# Altium schematic symbol library RD044-NETLIST2-CR5-01_Library.SchLib: 29 symbols
Pins are listed as number, name and electrical type; pins without a type are passive.

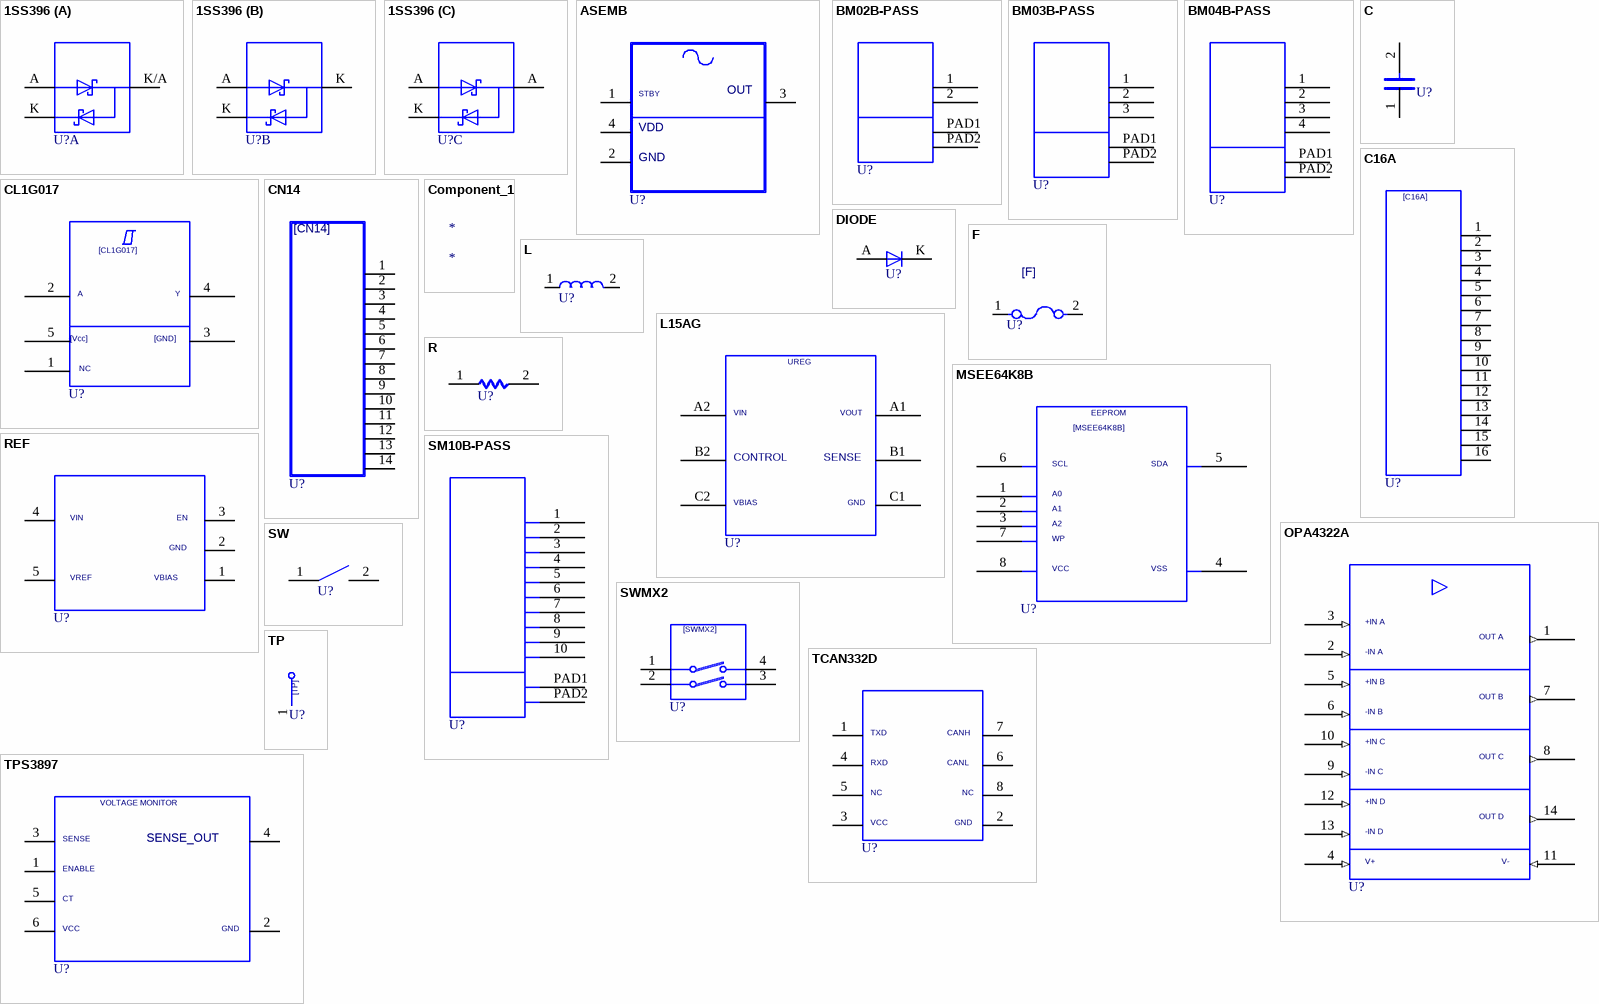
[diagram p0: symbols 1SS396 to TPS3897]

## 1SS396
designator U?  (value not drawn)
SAVECOUNT: 7; SAVEAREA0: -5465,-437,27678,21425; TIME: 18:51:12; UPDATEUSER: cae; UPDATETIME: 10:39:29; OriginalSymbolOrigin: (5080,17780); COMPONENTTYPE: parts; COMPONENTKIND: 103; AUTHOR: sato-yr; DATE: 2002/11/26; UPDATEDATE: 2019/08/02
part A pins: A, K, K/A
part B pins: A, K, K K/A
part C pins: A, A K/A, K

## ASEMB
designator U?  (value not drawn)
SAVEAREA0: -13388,-318,46493,30783; TIME: 14:56:21; UPDATEUSER: cae; UPDATETIME: 14:57:23; SAVECOUNT: 2; OriginalSymbolOrigin: (5080,27940); COMPONENTTYPE: parts; COMPONENTKIND: 118; AUTHOR: cae; DATE: 2019/07/10; UPDATEDATE: 2019/07/10
pins: 1, 2, 3, 4
text: OUT; STBY; VDD; GND

## BM02B-PASS
designator U?  (value not drawn)
SAVEAREA0: -14137,-269,36664,26115; SAVECOUNT: 27; TIME: 13:28:28; UPDATEUSER: cae; UPDATETIME: 09:55:50; OriginalSymbolOrigin: (2540,22860); COMPONENTTYPE: parts; COMPONENTKIND: 135; AUTHOR: user1; DATE: 2004/01/19; UPDATEDATE: 2019/08/02
pins: 1, 2, PAD1, PAD2

## BM03B-PASS
designator U?  (value not drawn)
SAVEAREA0: -16734,-4275,39145,32584; SAVECOUNT: 25; TIME: 13:28:28; UPDATEUSER: cae; UPDATETIME: 09:56:18; OriginalSymbolOrigin: (2540,25400); COMPONENTTYPE: parts; COMPONENTKIND: 135; AUTHOR: user1; DATE: 2004/01/19; UPDATEDATE: 2019/08/02
pins: 1, 2, 3, PAD1, PAD2

## BM04B-PASS
designator U?  (value not drawn)
SAVEAREA0: -19221,-4664,41739,35547; SAVECOUNT: 23; TIME: 13:28:28; UPDATEUSER: cae; UPDATETIME: 09:56:44; OriginalSymbolOrigin: (2540,27940); COMPONENTTYPE: parts; COMPONENTKIND: 135; AUTHOR: user1; DATE: 2004/01/19; UPDATEDATE: 2019/08/02
pins: 1, 2, 3, 4, PAD1, PAD2

## C
designator U?  (value not drawn)
OriginalSymbolOrigin: (2540,7620); COMPONENTTYPE: parts; COMPONENTKIND: 108
pins: 1, 2

## C16A
designator U?  (value not drawn)
SAVEAREA0: -32851,-599,52300,52191; TIME: 12:01:18; UPDATEUSER: fukuda-y; UPDATETIME: 13:44:49; SAVECOUNT: 2; OriginalSymbolOrigin: (2540,48260); COMPONENTTYPE: parts; COMPONENTKIND: 135; AUTHOR: fukuda-y; DATE: 2005/02/01; UPDATEDATE: 2005/02/01
pins: 1, 2, 3, 4, 5, 6, 7, 8, 9, 10, 11, 12, 13, 14, 15, 16
text: [C16A]

## CL1G017
designator U?  (value not drawn)
TIME: 16:09:43; UPDATEUSER: tomizawa-y; UPDATETIME: 12:13:51; SAVECOUNT: 12; SAVEAREA0: -8892,-376,44463,33313; OriginalSymbolOrigin: (7620,30480); COMPONENTTYPE: parts; COMPONENTKIND: 101; AUTHOR: e2117910; DATE: 2003/02/06; UPDATEDATE: 2004/03/26
pins: 1, 2, 3, 4, 5
text: [CL1G017]; A; Y; [Vcc]; [GND]; NC

## CN14
designator U?  (value not drawn)
OriginalSymbolOrigin: (2540,45720); COMPONENTTYPE: parts; COMPONENTKIND: 111
pins: 1, 2, 3, 4, 5, 6, 7, 8, 9, 10, 11, 12, 13, 14
text: [CN14]

## Component_1
designator *

## DIODE
designator U?  (value not drawn)
SAVEAREA0: -1337,-97,13924,7829; SAVECOUNT: 4; TIME: 14:49:55; UPDATEUSER: cae; UPDATETIME: 13:41:08; OriginalSymbolOrigin: (5080,5080); COMPONENTTYPE: parts; COMPONENTKIND: 103; AUTHOR: ikeda-k; DATE: 2003/02/07; UPDATEDATE: 2019/07/08
pins: A, K

## F
designator U?  (value not drawn)
OriginalSymbolOrigin: (2540,5080); COMPONENTTYPE: parts; COMPONENTKIND: 119
pins: 1, 2
text: [F]

## L
designator U?  (value not drawn)
OriginalSymbolOrigin: (2540,5080); COMPONENTTYPE: parts; COMPONENTKIND: 117
pins: 1, 2

## L15AG
designator U?  (value not drawn)
TIME: 08:44:39; UPDATEUSER: cae; UPDATETIME: 13:17:54; SAVECOUNT: 102; SAVEAREA0: -14581,-371,55282,35914; OriginalSymbolOrigin: (7620,33020); COMPONENTTYPE: parts; COMPONENTKIND: 101; AUTHOR: utauser; DATE: 2002/12/27; UPDATEDATE: 2019/07/22
pins: A1, A2, B1, B2, C1, C2
text: UREG; VIN; VOUT; CONTROL; SENSE; VBIAS; GND

## MSEE64K8B
designator U?  (value not drawn)
SAVECOUNT: 8; SAVEAREA0: -9998,-458,55119,39162; TIME: 10:18:07; UPDATEUSER: 19990028; UPDATETIME: 09:15:23; OriginalSymbolOrigin: (7620,35560); COMPONENTTYPE: parts; COMPONENTKIND: 101; AUTHOR: 19910145; DATE: 2008/10/07; UPDATEDATE: 2011/01/31
pins: 1, 2, 3, 4, 5, 6, 7, 8
text: EEPROM; [MSEE64K8B]; SCL; SDA; A0; A1; A2; WP; VCC; VSS

## OPA4322A
designator U?  (value not drawn)
SAVECOUNT: 28; SAVEAREA0: -34439,-609,80338,59004; TIME: 15:40:02; UPDATEUSER: cae; UPDATETIME: 16:49:13; OriginalSymbolOrigin: (7620,55880); COMPONENTTYPE: parts; COMPONENTKIND: 101; AUTHOR: Administrator; DATE: 2002/05/27; UPDATEDATE: 2019/06/25
pins: 1 (out), 2 (in), 3 (in), 4 (in), 5 (in), 6 (in), 7 (out), 8 (out), 9 (in), 10 (in), 11 (in), 12 (in), 13 (in), 14 (out)
text: +IN A; OUT A; -IN A; +IN B; OUT B; -IN B; +IN C; OUT C; -IN C; +IN D; OUT D; -IN D; V+; V-

## R
designator U?  (value not drawn)
OriginalSymbolOrigin: (5080,5080); COMPONENTTYPE: parts; COMPONENTKIND: 105
pins: 1, 2

## REF
designator U?  (value not drawn)
SAVECOUNT: 25; SAVEAREA0: -10386,-296,45494,28727; TIME: 17:47:02; UPDATEUSER: cae; UPDATETIME: 11:05:59; OriginalSymbolOrigin: (5080,25400); COMPONENTTYPE: parts; COMPONENTKIND: 101; AUTHOR: omeh0432; DATE: 2003/04/15; UPDATEDATE: 2019/06/25
pins: 1, 2, 3, 4, 5
text: VIN; EN; GND; VREF; VBIAS

## SM10B-PASS
designator U?  (value not drawn)
SAVEAREA0: -33411,-485,58033,47009; SAVECOUNT: 23; TIME: 13:28:28; UPDATEUSER: cae; UPDATETIME: 14:27:01; OriginalSymbolOrigin: (2540,43180); COMPONENTTYPE: parts; COMPONENTKIND: 135; AUTHOR: user1; DATE: 2004/01/19; UPDATEDATE: 2019/07/22
pins: 1, 2, 3, 4, 5, 6, 7, 8, 9, 10, PAD1, PAD2

## SW
designator U?  (value not drawn)
SAVEAREA0: -3361,-153,18383,13055; SAVECOUNT: 49; TIME: 15:02:55; UPDATEUSER: fukuda-y; UPDATETIME: 10:01:15; OriginalSymbolOrigin: (5080,5080); COMPONENTTYPE: parts; COMPONENTKIND: 115; AUTHOR: fukuda-y; DATE: 2001/10/19; UPDATEDATE: 2006/10/04
pins: 1, 2

## SWMX2
designator U?  (value not drawn)
OriginalSymbolOrigin: (5080,15240); COMPONENTTYPE: parts; COMPONENTKIND: 115
pins: 1, 2, 3, 4
text: [SWMX2]

## TCAN332D
designator U?  (value not drawn)
SAVECOUNT: 26; SAVEAREA0: -15475,-323,45487,31339; TIME: 17:47:02; UPDATEUSER: cae; UPDATETIME: 14:38:54; OriginalSymbolOrigin: (5080,27940); COMPONENTTYPE: parts; COMPONENTKIND: 101; AUTHOR: omeh0432; DATE: 2003/04/15; UPDATEDATE: 2019/07/22
pins: 1, 2, 3, 4, 5, 6, 7, 8
text: TXD; CANH; RXD; CANL; NC; VCC; GND

## TP
designator U?  (value not drawn)
TIME: 16:12:21; UPDATEUSER: fukuda-y; UPDATETIME: 16:18:11; SAVECOUNT: 2; SAVEAREA0: -242,-92,12810,7836; OriginalSymbolOrigin: (0,7620); COMPONENTTYPE: parts; COMPONENTKIND: 128; AUTHOR: fukuda-y; DATE: 2006/10/04; UPDATEDATE: 2006/10/04
pins: 1
text: [TP]

## TPS3897
designator U?  (value not drawn)
SAVEAREA0: -10817,-344,54055,33349; TIME: 16:54:57; UPDATEUSER: cae; UPDATETIME: 13:48:08; SAVECOUNT: 66; OriginalSymbolOrigin: (5080,30480); COMPONENTTYPE: parts; COMPONENTKIND: 101; AUTHOR: iketani; DATE: 2006/02/27; UPDATEDATE: 2019/07/10
pins: 1, 2, 3, 4, 5, 6
text: VOLTAGE MONITOR; SENSE; SENSE_OUT; ENABLE; CT; VCC; GND

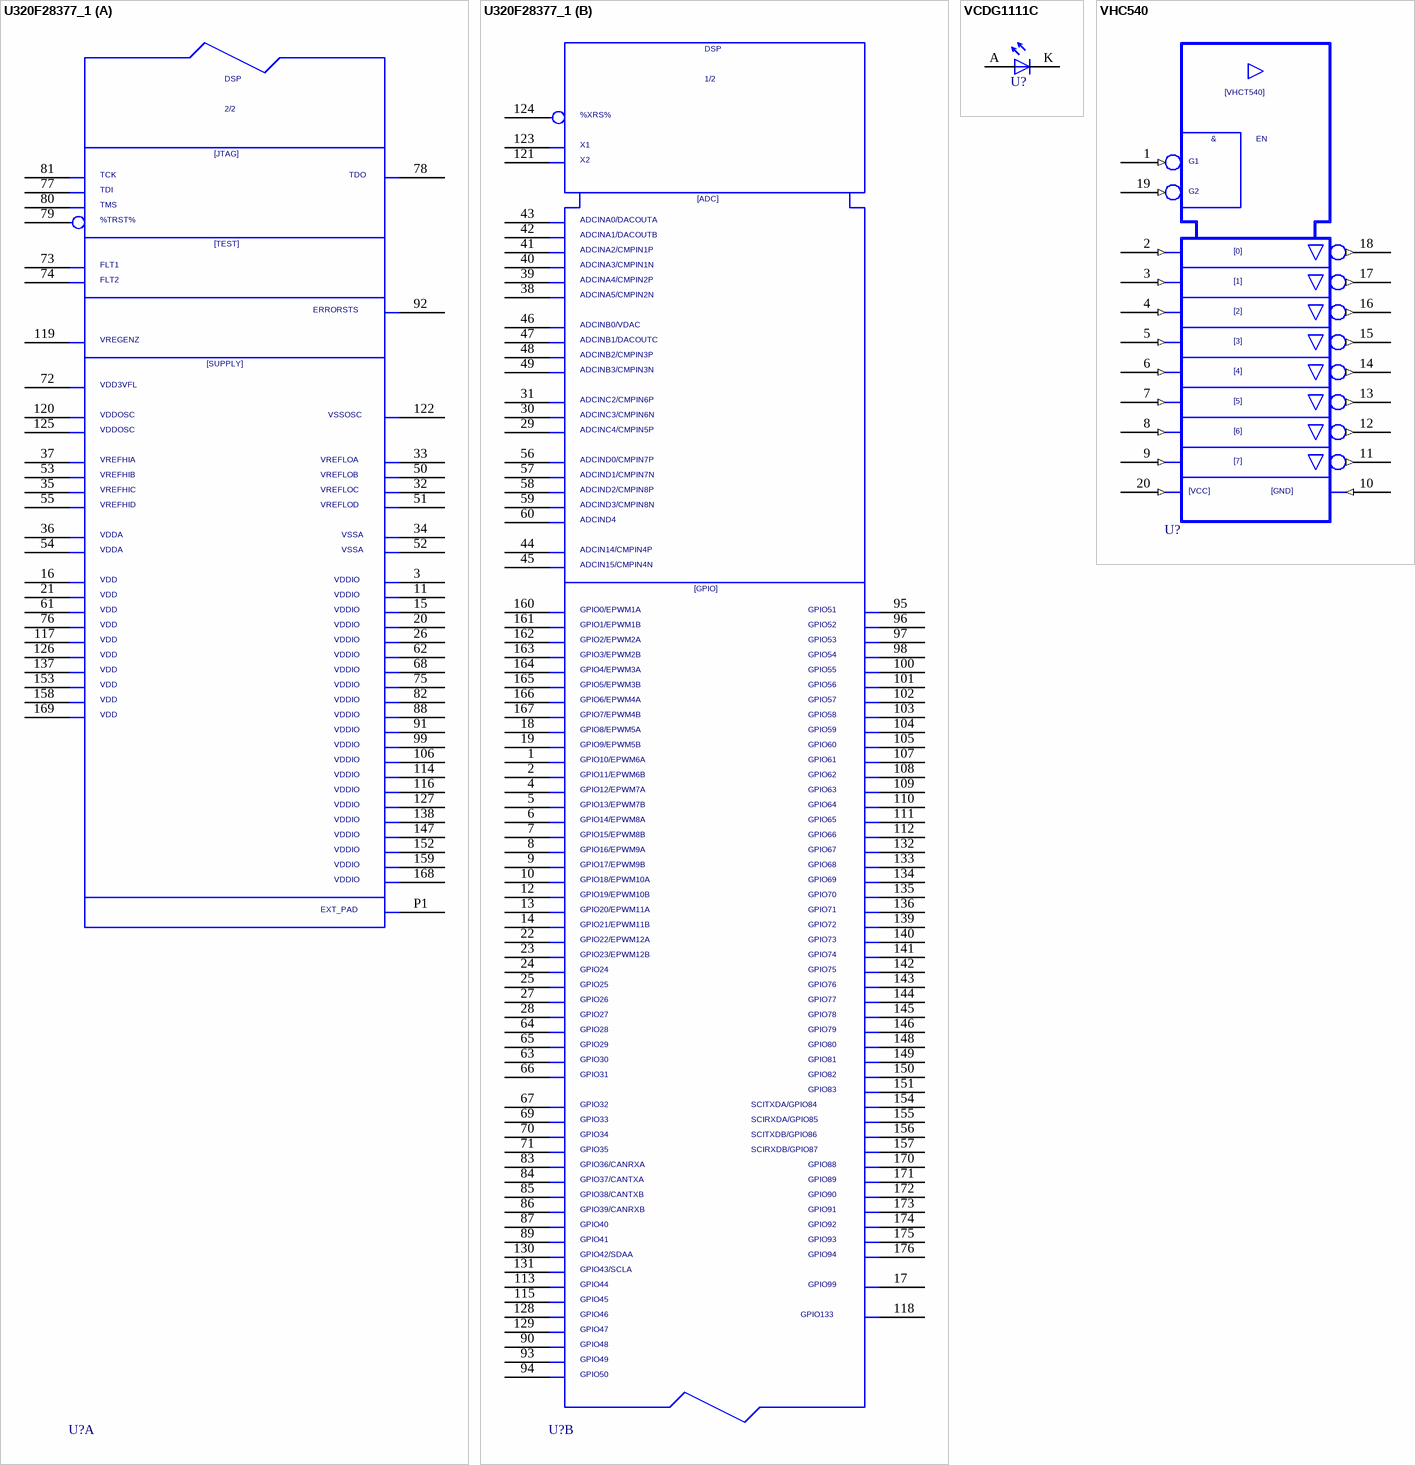
[diagram p1: symbols U320F28377_1 to VHC540]

## U320F28377_1
designator U?  (value not drawn)
SAVEAREA0: -157495,-2464,228972,238585; SAVECOUNT: 59; TIME: 10:04:23; UPDATEUSER: cae; UPDATETIME: 18:05:54; OriginalSymbolOrigin: (7620,233680); COMPONENTTYPE: gate; COMPONENTKIND: 101; AUTHOR: sawabe-h; DATE: 2004/02/19; UPDATEDATE: 2019/07/11
part A pins: 3, 11, 15, 16, 20, 21, 26, 32, 33, 34, 35, 36, 37, 50, 51, 52, 53, 54, 55, 61, 62, 68, 72, 73, 74, 75, 76, 77, 78, 79, 80, 81, 82, 88, 91, 92, 99, 106, 114, 116, 117, 119, 120, 122, 125, 126, 127, 137, 138, 147, 152, 153, 158, 159, 168, 169, P1
part B pins: 1, 2, 4, 5, 6, 7, 8, 9, 10, 12, 13, 14, 17, 18, 19, 22, 23, 24, 25, 27, 28, 29, 30, 31, 38, 39, 40, 41, 42, 43, 44, 45, 46, 47, 48, 49, 56, 57, 58, 59, 60, 63, 64, 65, 66, 67, 69, 70, 71, 83, 84, 85, 86, 87, 89, 90, 93, 94, 95, 96, 97, 98, 100, 101, 102, 103, 104, 105, 107, 108, 109, 110, 111, 112, 113, 115, 118, 121, 123, 124, 128, 129, 130, 131, 132, 133, 134, 135, 136, 139, 140, 141, 142, 143, 144, 145, 146, 148, 149, 150, 151, 154, 155, 156, 157, 160, 161, 162, 163, 164, 165, 166, 167, 170, 171, 172, 173, 174, 175, 176
part A text: DSP; 2/2; [JTAG]; TCK; TDO; TDI; TMS; %TRST%; [TEST]; FLT1; FLT2; ERRORSTS; VREGENZ; [SUPPLY]; VDD3VFL; VDDOSC; VSSOSC; VREFHIA; VREFLOA; VREFHIB; VREFLOB; VREFHIC; VREFLOC; VREFHID; VREFLOD; VDDA; VSSA; VDD; VDDIO; EXT_PAD
part B text: DSP; 1/2; %XRS%; X1; X2; [ADC]; ADCINA0/DACOUTA; ADCINA1/DACOUTB; ADCINA2/CMPIN1P; ADCINA3/CMPIN1N; ADCINA4/CMPIN2P; ADCINA5/CMPIN2N; ADCINB0/VDAC; ADCINB1/DACOUTC; ADCINB2/CMPIN3P; ADCINB3/CMPIN3N; ADCINC2/CMPIN6P; ADCINC3/CMPIN6N; ADCINC4/CMPIN5P; ADCIND0/CMPIN7P; ADCIND1/CMPIN7N; ADCIND2/CMPIN8P; ADCIND3/CMPIN8N; ADCIND4; ADCIN14/CMPIN4P; ADCIN15/CMPIN4N; [GPIO]; GPIO0/EPWM1A; GPIO51; GPIO1/EPWM1B; GPIO52; GPIO2/EPWM2A; GPIO53; GPIO3/EPWM2B; GPIO54; GPIO4/EPWM3A; GPIO55; GPIO5/EPWM3B; GPIO56; GPIO6/EPWM4A; GPIO57; GPIO7/EPWM4B; GPIO58; GPIO8/EPWM5A; GPIO59; GPIO9/EPWM5B; GPIO60; GPIO10/EPWM6A; GPIO61; GPIO11/EPWM6B; GPIO62; GPIO12/EPWM7A; GPIO63; GPIO13/EPWM7B; GPIO64; GPIO14/EPWM8A; GPIO65; GPIO15/EPWM8B; GPIO66; GPIO16/EPWM9A; GPIO67; GPIO17/EPWM9B; GPIO68; GPIO18/EPWM10A; GPIO69; GPIO19/EPWM10B; GPIO70; GPIO20/EPWM11A; GPIO71; GPIO21/EPWM11B; GPIO72; GPIO22/EPWM12A; GPIO73; GPIO23/EPWM12B; GPIO74; GPIO24; GPIO75; GPIO25; GPIO76; GPIO26; GPIO77; GPIO27; GPIO78; GPIO28; GPIO79; GPIO29; GPIO80; GPIO30; GPIO81; GPIO31; GPIO82; GPIO83; GPIO32; SCITXDA/GPIO84; GPIO33; SCIRXDA/GPIO85; GPIO34; SCITXDB/GPIO86; GPIO35; SCIRXDB/GPIO87; GPIO36/CANRXA; GPIO88; GPIO37/CANTXA; GPIO89; GPIO38/CANTXB; GPIO90; GPIO39/CANRXB; GPIO91; GPIO40; GPIO92; GPIO41; GPIO93; GPIO42/SDAA; GPIO94; GPIO43/SCLA; GPIO44; GPIO99; GPIO45; GPIO46; GPIO133; GPIO47; GPIO48; GPIO49; GPIO50

## VCDG1111C
designator U?  (value not drawn)
SAVEAREA0: -6769,-859,19276,16321; TIME: 14:49:55; UPDATEUSER: cae; UPDATETIME: 10:51:12; SAVECOUNT: 5; OriginalSymbolOrigin: (5080,7620); COMPONENTTYPE: parts; COMPONENTKIND: 104; AUTHOR: ikeda-k; DATE: 2003/02/07; UPDATEDATE: 2019/08/02
pins: A, K

## VHC540
designator U?  (value not drawn)
SAVEAREA0: -64373,-927,110287,89788; TIME: 09:37:32; UPDATEUSER: cae; SAVECOUNT: 1; OriginalSymbolOrigin: (7620,83820); COMPONENTTYPE: parts; COMPONENTKIND: 101; AUTHOR: cae; DATE: 2019/07/12; UPDATEDATE: 2019/07/12; UPDATETIME: 09:37:32
pins: 1 (in), 2 (in), 3 (in), 4 (in), 5 (in), 6 (in), 7 (in), 8 (in), 9 (in), 10 (in), 11 (out), 12 (out), 13 (out), 14 (out), 15 (out), 16 (out), 17 (out), 18 (out), 19 (in), 20 (in)
text: [VHCT540]; &; EN; G1; G2; [0]; [1]; [2]; [3]; [4]; [5]; [6]; [7]; [VCC]; [GND]

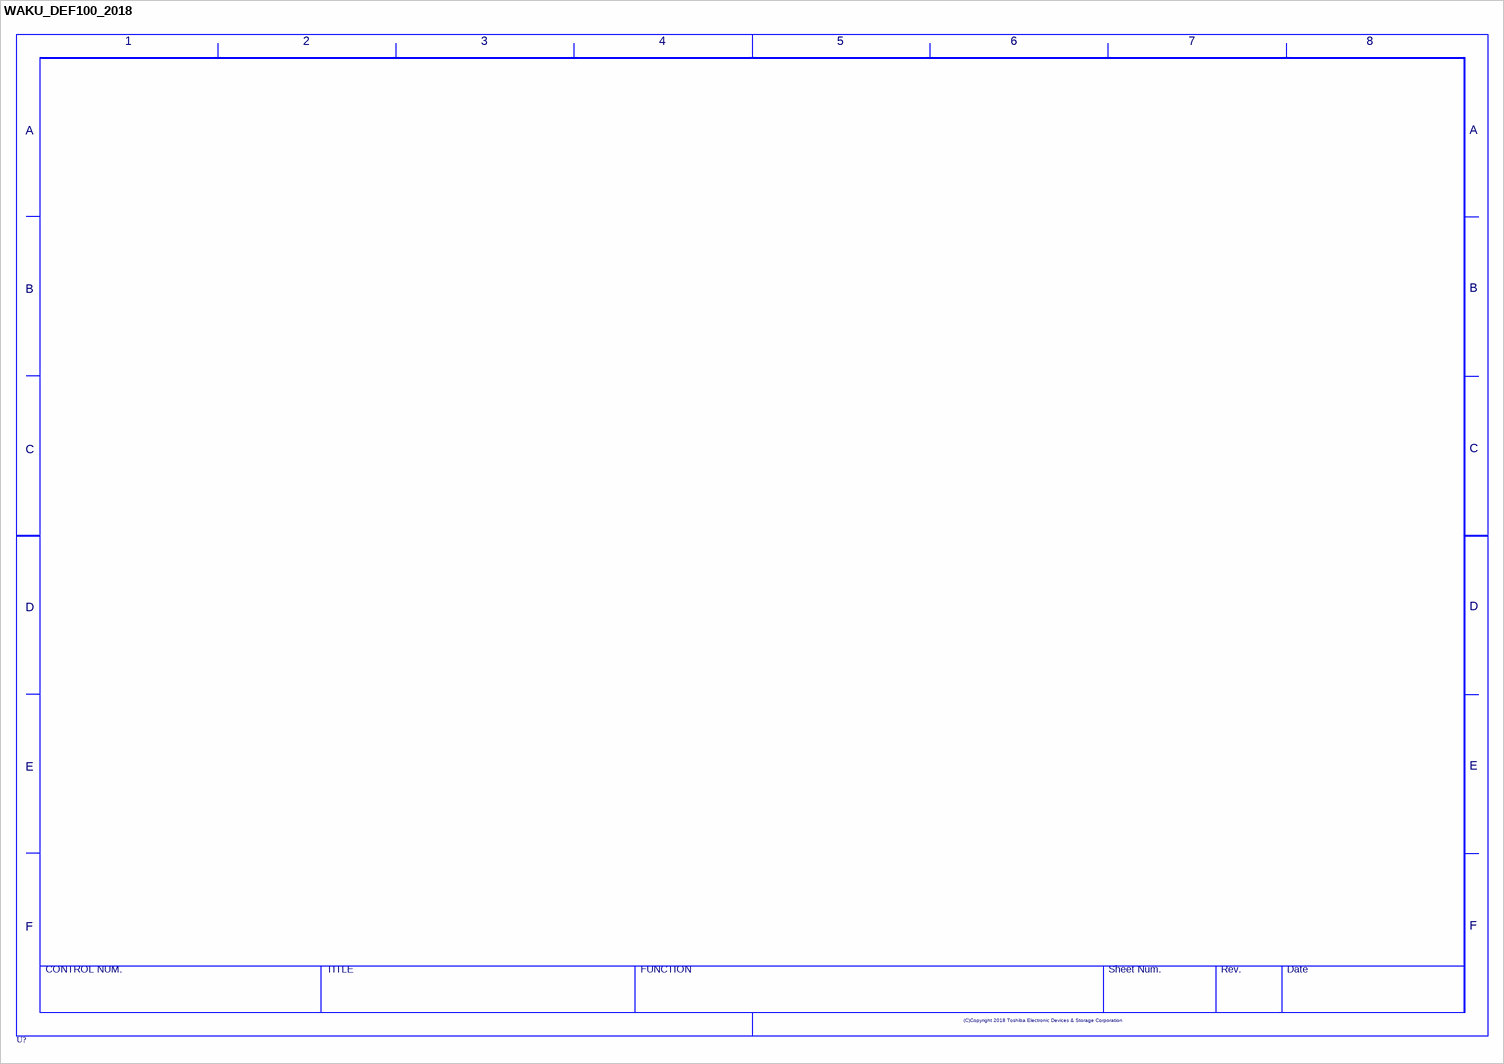
[diagram p2: symbol WAKU_DEF100_2018]

## WAKU_DEF100_2018
designator U?  (value not drawn)
PLOTTIME: HH:MM; SAVEAREA0: -113565,-16950,524772,314592; TIME: 14:30:25; UPDATEUSER: cae; UPDATETIME: 11:15:19; SAVECOUNT: 4; OriginalSymbolOrigin: (10160,284480); COMPONENTTYPE: frame; COMPONENTKIND: 0; PLOTDATE: YYYY.MM.DD; AUTHOR: cae; DATE: 2017/06/06; UPDATEDATE: 2018/10/16
text: 1; 2; 3; 5; 6; 7; 8; A; B; C; D; E; F; CONTROL NUM.; TITLE; FUNCTION; Sheet Num.; Rev.; Date; (C)Copyright 2018 Toshiba Electronic Devices & Storage Corporation

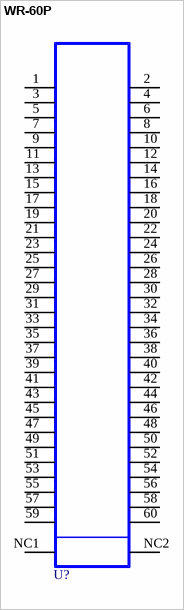
[diagram p3: symbol WR-60P]

## WR-60P
designator U?  (value not drawn)
SAVEAREA0: -67682,-998,88845,96631; SAVECOUNT: 3; TIME: 09:42:27; UPDATEUSER: cae; UPDATETIME: 10:25:54; OriginalSymbolOrigin: (5080,91440); COMPONENTTYPE: parts; COMPONENTKIND: 111; AUTHOR: cae; DATE: 2019/07/05; UPDATEDATE: 2019/08/02
pins: 1, 2, 3, 4, 5, 6, 7, 8, 9, 10, 11, 12, 13, 14, 15, 16, 17, 18, 19, 20, 21, 22, 23, 24, 25, 26, 27, 28, 29, 30, 31, 32, 33, 34, 35, 36, 37, 38, 39, 40, 41, 42, 43, 44, 45, 46, 47, 48, 49, 50, 51, 52, 53, 54, 55, 56, 57, 58, 59, 60, NC1, NC2